# Altium schematic symbol library Connector_Audio.SchLib: 233 symbols (part 1 of 2)
Pins are listed as number, name and electrical type; pins without a type are passive.

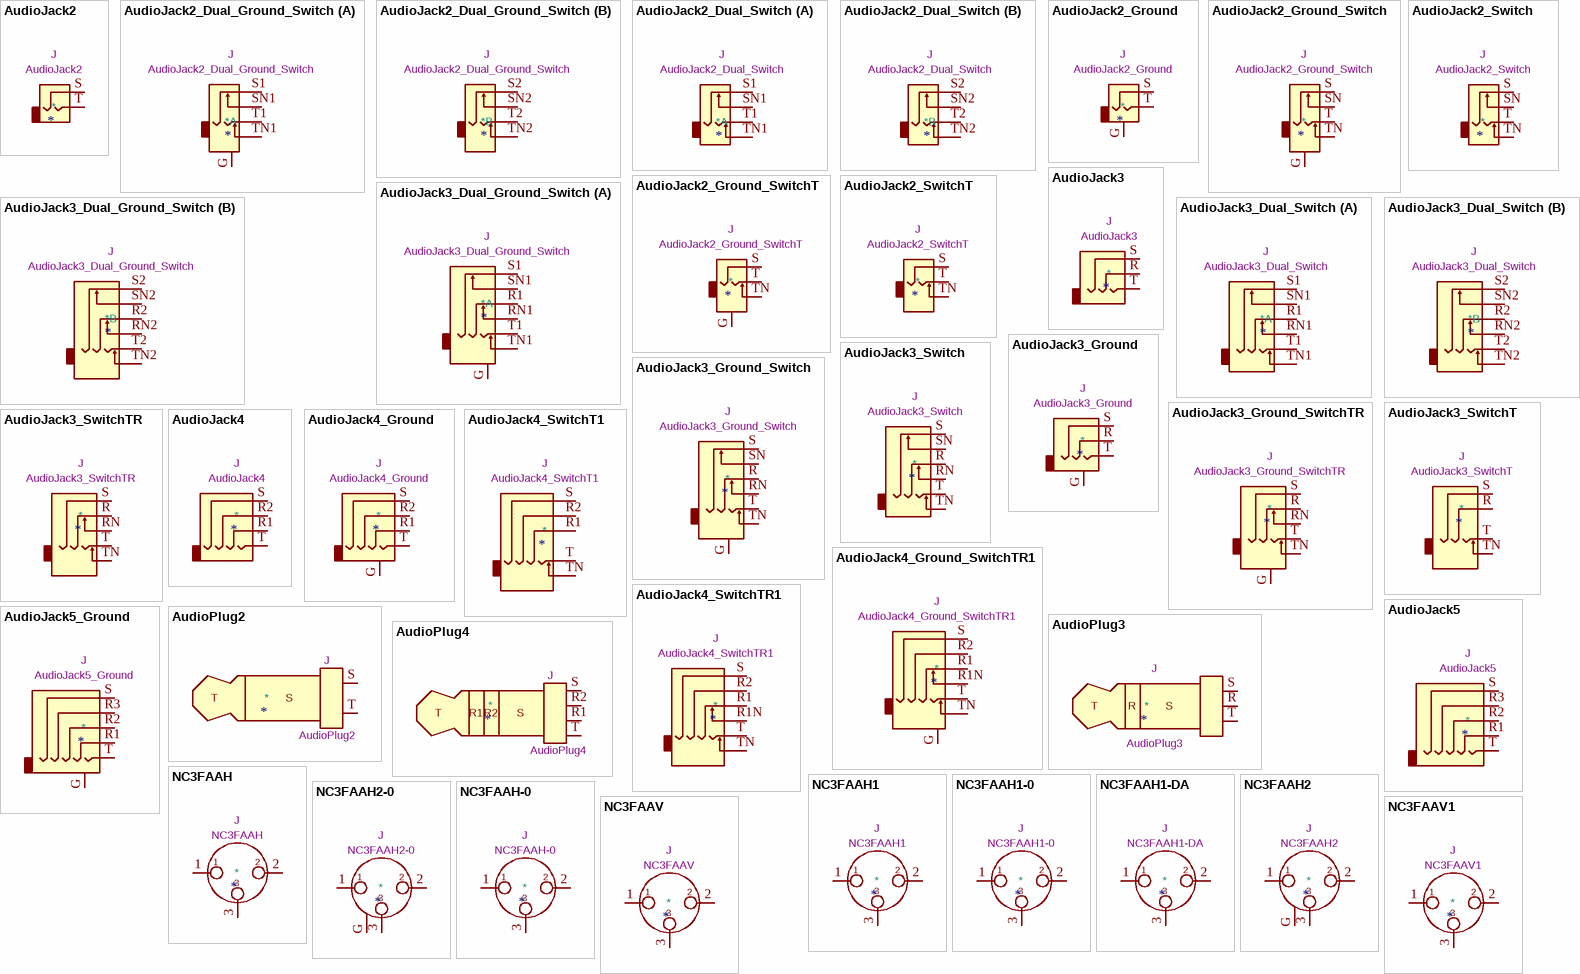
[diagram p0: symbols AudioJack2 to NC3FAAV1]

## AudioJack2
designator *  value AudioJack2  Reference: J
ki_keywords: audio jack receptacle mono phone headphone TS connector; ki_description: Audio Jack, 2 Poles (Mono / TS); ki_fp_filters: Jack*; Datasheet: ~
pins: S, T

## AudioJack2_Dual_Ground_Switch
designator *  value AudioJack2_Dual_Ground_Switch  Reference: J
ki_keywords: audio jack dual receptacle mono headphones phone TS connector; ki_description: Audio Jack, Dual, 2 Poles (Mono / TS), Grounded Sleeve, Switched Pole (Normalling); ki_fp_filters: Jack*; Datasheet: ~
part A pins: G, S1, SN1, T1, TN1
part B pins: S2, SN2, T2, TN2

## AudioJack2_Dual_Switch
designator *  value AudioJack2_Dual_Switch  Reference: J
ki_keywords: audio jack dual receptacle mono headphones phone TS connector; ki_description: Audio Jack, Dual, 2 Poles (Mono / TS), Switched Pole (Normalling); ki_fp_filters: Jack*; Datasheet: ~
part A pins: S1, SN1, T1, TN1
part B pins: S2, SN2, T2, TN2

## AudioJack2_Ground
designator *  value AudioJack2_Ground  Reference: J
ki_keywords: audio jack receptacle mono phone headphone TS connector; ki_description: Audio Jack, 2 Poles (Mono / TS), Grounded Sleeve; ki_fp_filters: Jack*; Datasheet: ~
pins: G, S, T

## AudioJack2_Ground_Switch
designator *  value AudioJack2_Ground_Switch  Reference: J
ki_keywords: audio jack receptacle mono headphones phone TS connector; ki_description: Audio Jack, 2 Poles (Mono / TS), Grounded Sleeve, Switched Pole (Normalling); ki_fp_filters: Jack*; Datasheet: ~
pins: G, S, SN, T, TN

## AudioJack2_Ground_SwitchT
designator *  value AudioJack2_Ground_SwitchT  Reference: J
ki_keywords: audio jack receptacle mono headphones phone TS connector; ki_description: Audio Jack, 2 Poles (Mono / TS), Grounded Sleeve, Switched T Pole (Normalling); ki_fp_filters: Jack*; Datasheet: ~
pins: G, S, T, TN

## AudioJack2_Switch
designator *  value AudioJack2_Switch  Reference: J
ki_keywords: audio jack receptacle mono headphones phone TS connector; ki_description: Audio Jack, 2 Poles (Mono / TS), Switched Pole (Normalling); ki_fp_filters: Jack*; Datasheet: ~
pins: S, SN, T, TN

## AudioJack2_SwitchT
designator *  value AudioJack2_SwitchT  Reference: J
ki_keywords: audio jack receptacle mono headphones phone TS connector; ki_description: Audio Jack, 2 Poles (Mono / TS), Switched T Pole (Normalling); ki_fp_filters: Jack*; Datasheet: ~
pins: S, T, TN

## AudioJack3
designator *  value AudioJack3  Reference: J
ki_keywords: audio jack receptacle stereo headphones phones TRS connector; ki_description: Audio Jack, 3 Poles (Stereo / TRS); ki_fp_filters: Jack*; Datasheet: ~
pins: R, S, T

## AudioJack3_Dual_Ground_Switch
designator *  value AudioJack3_Dual_Ground_Switch  Reference: J
ki_keywords: audio jack dual receptacle stereo headphones phones TRS connector; ki_description: Audio Jack, Dual, 3 Poles (Stereo / TRS), Grounded Sleeve, Switched Poles (Normalling); ki_fp_filters: Jack*; Datasheet: ~
part A pins: G, R1, RN1, S1, SN1, T1, TN1
part B pins: R2, RN2, S2, SN2, T2, TN2

## AudioJack3_Dual_Switch
designator *  value AudioJack3_Dual_Switch  Reference: J
ki_keywords: audio jack dual receptacle stereo headphones phones TRS connector; ki_description: Audio Jack, Dual, 3 Poles (Stereo / TRS), Switched Poles (Normalling); ki_fp_filters: Jack*; Datasheet: ~
part A pins: R1, RN1, S1, SN1, T1, TN1
part B pins: R2, RN2, S2, SN2, T2, TN2

## AudioJack3_Ground
designator *  value AudioJack3_Ground  Reference: J
ki_keywords: audio jack receptacle stereo headphones phones TRS connector; ki_description: Audio Jack, 3 Poles (Stereo / TRS), Grounded Sleeve; ki_fp_filters: Jack*; Datasheet: ~
pins: G, R, S, T

## AudioJack3_Ground_Switch
designator *  value AudioJack3_Ground_Switch  Reference: J
ki_keywords: audio jack receptacle stereo headphones phones TRS connector; ki_description: Audio Jack, 3 Poles (Stereo / TRS), Grounded Sleeve, Switched Poles (Normalling); ki_fp_filters: Jack*; Datasheet: ~
pins: G, R, RN, S, SN, T, TN

## AudioJack3_Ground_SwitchTR
designator *  value AudioJack3_Ground_SwitchTR  Reference: J
ki_keywords: audio jack receptacle stereo headphones phones TRS connector; ki_description: Audio Jack, 3 Poles (Stereo / TRS), Grounded Sleeve, Switched TR Poles (Normalling); ki_fp_filters: Jack*; Datasheet: ~
pins: G, R, RN, S, T, TN

## AudioJack3_Switch
designator *  value AudioJack3_Switch  Reference: J
ki_keywords: audio jack receptacle stereo headphones connector; ki_description: Audio Jack, 3 Poles (Stereo / TRS), Switched Poles (Normalling); ki_fp_filters: Jack*; Datasheet: ~
pins: R, RN, S, SN, T, TN

## AudioJack3_SwitchT
designator *  value AudioJack3_SwitchT  Reference: J
ki_keywords: audio jack receptacle stereo headphones phones TRS connector; ki_description: Audio Jack, 3 Poles (Stereo / TRS), Switched T Pole (Normalling); ki_fp_filters: Jack*; Datasheet: ~
pins: R, S, T, TN

## AudioJack3_SwitchTR
designator *  value AudioJack3_SwitchTR  Reference: J
ki_keywords: audio jack receptacle stereo headphones phones TRS connector; ki_description: Audio Jack, 3 Poles (Stereo / TRS), Switched TR Poles (Normalling); ki_fp_filters: Jack*; Datasheet: ~
pins: R, RN, S, T, TN

## AudioJack4
designator *  value AudioJack4  Reference: J
ki_keywords: audio jack receptacle stereo headphones TRRS connector; ki_description: Audio Jack, 4 Poles (TRRS); ki_fp_filters: Jack*; Datasheet: ~
pins: R1, R2, S, T

## AudioJack4_Ground
designator *  value AudioJack4_Ground  Reference: J
ki_keywords: audio jack receptacle stereo headphones TRRS connector; ki_description: Audio Jack, 4 Poles (TRRS), Grounded Sleeve; ki_fp_filters: Jack*; Datasheet: ~
pins: G, R1, R2, S, T

## AudioJack4_Ground_SwitchTR1
designator *  value AudioJack4_Ground_SwitchTR1  Reference: J
ki_keywords: audio jack receptacle stereo headphones phones TRS connector; ki_description: Audio Jack, 4 Poles (Stereo / TRRS), Grounded Sleeve, Switched TR1 Poles (Normalling); ki_fp_filters: Jack*; Datasheet: ~
pins: G, R1, R1N, R2, S, T, TN

## AudioJack4_SwitchT1
designator *  value AudioJack4_SwitchT1  Reference: J
ki_keywords: audio jack receptacle stereo headphones phones connector; ki_description: Audio Jack, 4 Poles (Stereo / TRRS), Switched T1 Pole (Normalling); ki_fp_filters: Jack*; Datasheet: ~
pins: R1, R2, S, T, TN

## AudioJack4_SwitchTR1
designator *  value AudioJack4_SwitchTR1  Reference: J
ki_keywords: audio jack receptacle stereo headphones phones TRS connector; ki_description: Audio Jack, 4 Poles (Stereo / TRRS), Switched TR1 Poles (Normalling); ki_fp_filters: Jack*; Datasheet: ~
pins: R1, R1N, R2, S, T, TN

## AudioJack5
designator *  value AudioJack5  Reference: J
ki_keywords: audio jack receptacle stereo headphones TRRRS connector; ki_description: Audio Jack, 5 Poles (TRRRS); ki_fp_filters: Jack*; Datasheet: ~
pins: R1, R2, R3, S, T

## AudioJack5_Ground
designator *  value AudioJack5_Ground  Reference: J
ki_keywords: audio jack receptacle stereo headphones TRRRS connector; ki_description: Audio Jack, 5 Poles (TRRRS), Grounded Sleeve; ki_fp_filters: Jack*; Datasheet: ~
pins: G, R1, R2, R3, S, T

## AudioPlug2
designator *  value AudioPlug2  Reference: J
ki_keywords: audio jack plug stereo headphones TRRS connector 2.5mm 3.5mm 6.35mm; ki_description: Audio Jack, 2 Poles (Mono / TS); ki_fp_filters: Plug*; Datasheet: ~
pins: S, T

## AudioPlug3
designator *  value AudioPlug3  Reference: J
ki_keywords: audio jack plug stereo headphones TRRS connector 2.5mm 3.5mm 6.35mm; ki_description: Audio Jack, 3 Poles (Stereo / TRS); ki_fp_filters: Plug*; Datasheet: ~
pins: R, S, T

## AudioPlug4
designator *  value AudioPlug4  Reference: J
ki_keywords: audio jack plug stereo headphones TRRS connector 2.5mm 3.5mm; ki_description: Audio Jack, 4 Poles (Stereo / TRRS); ki_fp_filters: Plug*; Datasheet: ~
pins: R1, R2, S, T

## NC3FAAH
designator *  value NC3FAAH  Reference: J
ki_keywords: xlr connector neutrik; ki_description: AA Series, 3 pole female XLR receptacle, grounding: without ground/shell contact, horizontal PCB mount; ki_fp_filters: Jack*XLR*; Footprint: Connector_Audio:Jack_XLR_Neutrik_NC3FAAH_Horizontal; Datasheet: https://www.neutrik.com/en/product/nc3faah
pins: 1, 2, 3

## NC3FAAH1
designator *  value NC3FAAH1  Reference: J
ki_keywords: xlr connector neutrik; ki_description: AA Series, 3 pole female XLR receptacle, grounding: mating connector shell to pin1 and front panel, horizontal PCB mount; ki_fp_filters: Jack*XLR*; Footprint: Connector_Audio:Jack_XLR_Neutrik_NC3FAAH1_Horizontal; Datasheet: https://www.neutrik.com/en/product/nc3faah1
pins: 1, 2, 3

## NC3FAAH1-0
designator *  value NC3FAAH1-0  Reference: J
ki_keywords: xlr connector neutrik; ki_description: AA Series, 3 pole female XLR receptacle, grounding: mating connector shell to pin1 and front panel, horizontal PCB mount, retention spring instead of latch; ki_fp_filters: Jack*XLR*; Footprint: Connector_Audio:Jack_XLR_Neutrik_NC3FAAH1-0_Horizontal; Datasheet: https://www.neutrik.com/en/product/nc3faah1-0
pins: 1, 2, 3

## NC3FAAH1-DA
designator *  value NC3FAAH1-DA  Reference: J
ki_keywords: xlr connector neutrik; ki_description: AA Series, 3 pole female XLR receptacle, grounding: mating connector shell to pin1 and front panel, horizontal PCB mount, asymmetric push; ki_fp_filters: Jack*XLR*; Footprint: Connector_Audio:Jack_XLR_Neutrik_NC3FAAH1-DA_Horizontal; Datasheet: https://www.neutrik.com/en/product/nc3faah1-da
pins: 1, 2, 3

## NC3FAAH2
designator *  value NC3FAAH2  Reference: J
ki_keywords: xlr connector neutrik; ki_description: AA Series, 3 pole female XLR receptacle, grounding: separate ground contact to mating connector shell and front panel, horizontal PCB mount; ki_fp_filters: Jack*XLR*; Footprint: Connector_Audio:Jack_XLR_Neutrik_NC3FAAH2_Horizontal; Datasheet: https://www.neutrik.com/en/product/nc3faah2
pins: 1, 2, 3, G

## NC3FAAH2-0
designator *  value NC3FAAH2-0  Reference: J
ki_keywords: xlr connector neutrik; ki_description: AA Series, 3 pole female XLR receptacle, grounding: separate ground contact to mating connector shell and front panel, horizontal PCB mount, retention spring instead of latch; ki_fp_filters: Jack*XLR*; Footprint: Connector_Audio:Jack_XLR_Neutrik_NC3FAAH2-0_Horizontal; Datasheet: https://www.neutrik.com/en/product/nc3faah2-0
pins: 1, 2, 3, G

## NC3FAAH-0
designator *  value NC3FAAH-0  Reference: J
ki_keywords: xlr connector neutrik; ki_description: AA Series, 3 pole female XLR receptacle, grounding: without ground/shell contact, horizontal PCB mount, retention spring instead of latch; ki_fp_filters: Jack*XLR*; Footprint: Connector_Audio:Jack_XLR_Neutrik_NC3FAAH-0_Horizontal; Datasheet: https://www.neutrik.com/en/product/nc3faah-0
pins: 1, 2, 3

## NC3FAAV
designator *  value NC3FAAV  Reference: J
ki_keywords: xlr connector neutrik; ki_description: AA Series, 3 pole female receptacle, grounding: without ground/shell contact, vertical PCB mount; ki_fp_filters: Jack*XLR*; Footprint: Connector_Audio:Jack_XLR_Neutrik_NC3FAAV_Vertical; Datasheet: https://www.neutrik.com/en/product/nc3faav
pins: 1, 2, 3

## NC3FAAV1
designator *  value NC3FAAV1  Reference: J
ki_keywords: xlr connector neutrik; ki_description: AA Series, 3 pole female receptacle, grounding: mating connector shell to pin1 and front panel, vertical PCB mount; ki_fp_filters: Jack*XLR*; Footprint: Connector_Audio:Jack_XLR_Neutrik_NC3FAAV1_Vertical; Datasheet: https://www.neutrik.com/en/product/nc3faav1
pins: 1, 2, 3

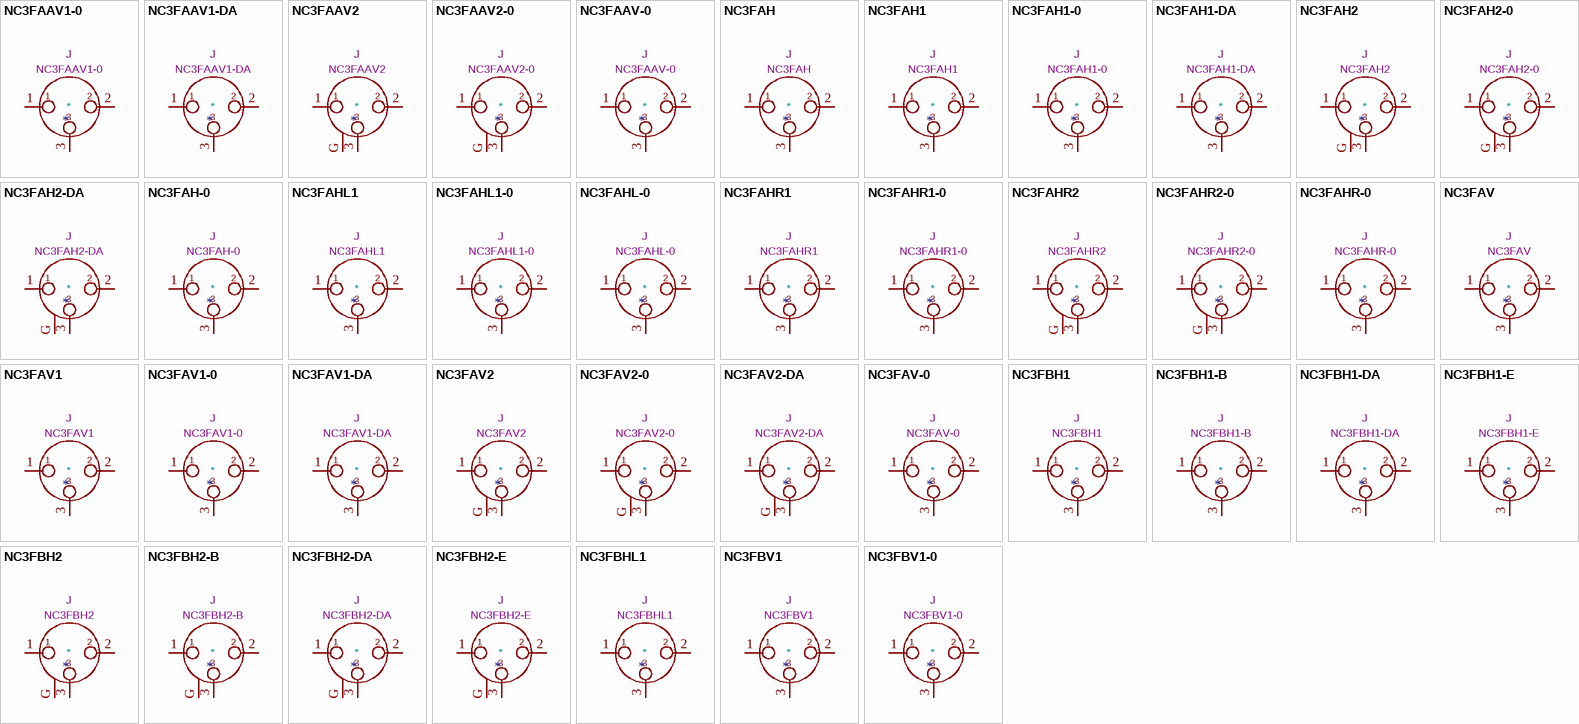
[diagram p1: symbols NC3FAAV1-0 to NC3FBV1-0]

## NC3FAAV1-0
designator *  value NC3FAAV1-0  Reference: J
ki_keywords: xlr connector neutrik; ki_description: AA Series, 3 pole female receptacle, grounding: mating connector shell to pin1 and front panel, vertical PCB mount, retention spring instead of latch; ki_fp_filters: Jack*XLR*; Footprint: Connector_Audio:Jack_XLR_Neutrik_NC3FAAV1-0_Vertical; Datasheet: https://www.neutrik.com/en/product/nc3faav1-0
pins: 1, 2, 3

## NC3FAAV1-DA
designator *  value NC3FAAV1-DA  Reference: J
ki_keywords: xlr connector neutrik; ki_description: AA Series, 3 pole female receptacle, grounding: mating connector shell to pin1 and front panel, vertical PCB mount, asymmetric push; ki_fp_filters: Jack*XLR*; Footprint: Connector_Audio:Jack_XLR_Neutrik_NC3FAAV1-DA_Vertical; Datasheet: https://www.neutrik.com/en/product/nc3faav1-da
pins: 1, 2, 3

## NC3FAAV2
designator *  value NC3FAAV2  Reference: J
ki_keywords: xlr connector neutrik; ki_description: AA Series, 3 pole female receptacle, grounding: separate ground contact to mating connector shell and front panel, vertical PCB mount; ki_fp_filters: Jack*XLR*; Footprint: Connector_Audio:Jack_XLR_Neutrik_NC3FAAV2_Vertical; Datasheet: https://www.neutrik.com/en/product/nc3faav2
pins: 1, 2, 3, G

## NC3FAAV2-0
designator *  value NC3FAAV2-0  Reference: J
ki_keywords: xlr connector neutrik; ki_description: AA Series, 3 pole female receptacle, grounding: separate ground contact to mating connector shell and front panel, vertical PCB mount, retention spring instead of latch; ki_fp_filters: Jack*XLR*; Footprint: Connector_Audio:Jack_XLR_Neutrik_NC3FAAV2-0_Vertical; Datasheet: https://www.neutrik.com/en/product/nc3faav2-0
pins: 1, 2, 3, G

## NC3FAAV-0
designator *  value NC3FAAV-0  Reference: J
ki_keywords: xlr connector neutrik; ki_description: AA Series, 3 pole female receptacle, grounding: without ground/shell contact, vertical PCB mount, retention spring instead of latch; ki_fp_filters: Jack*XLR*; Footprint: Connector_Audio:Jack_XLR_Neutrik_NC3FAAV-0_Vertical; Datasheet: https://www.neutrik.com/en/product/nc3faav-0
pins: 1, 2, 3

## NC3FAH
designator *  value NC3FAH  Reference: J
ki_keywords: xlr connector neutrik; ki_description: A Series, 3 pole female XLR receptacle, grounding: without ground/shell contact, horizontal PCB mount; ki_fp_filters: Jack*XLR*; Footprint: Connector_Audio:Jack_XLR_Neutrik_NC3FAH_Horizontal; Datasheet: https://www.neutrik.com/en/product/nc3fah
pins: 1, 2, 3

## NC3FAH1
designator *  value NC3FAH1  Reference: J
ki_keywords: xlr connector neutrik; ki_description: A Series, 3 pole female XLR receptacle, grounding: mating connector shell to pin1 and front panel, horizontal PCB mount; ki_fp_filters: Jack*XLR*; Footprint: Connector_Audio:Jack_XLR_Neutrik_NC3FAH1_Horizontal; Datasheet: https://www.neutrik.com/en/product/nc3fah1
pins: 1, 2, 3

## NC3FAH1-0
designator *  value NC3FAH1-0  Reference: J
ki_keywords: xlr connector neutrik; ki_description: A Series, 3 pole female XLR receptacle, grounding: mating connector shell to pin1 and front panel, horizontal PCB mount, retention spring instead of latch; ki_fp_filters: Jack*XLR*; Footprint: Connector_Audio:Jack_XLR_Neutrik_NC3FAH1-0_Horizontal; Datasheet: https://www.neutrik.com/en/product/nc3fah1-0
pins: 1, 2, 3

## NC3FAH1-DA
designator *  value NC3FAH1-DA  Reference: J
ki_keywords: xlr connector neutrik; ki_description: A Series, 3 pole female XLR receptacle, grounding: mating connector shell to pin1 and front panel, horizontal PCB mount, asymmetric push; ki_fp_filters: Jack*XLR*; Footprint: Connector_Audio:Jack_XLR_Neutrik_NC3FAH1-DA_Horizontal; Datasheet: https://www.neutrik.com/en/product/nc3fah1-da
pins: 1, 2, 3

## NC3FAH2
designator *  value NC3FAH2  Reference: J
ki_keywords: xlr connector neutrik; ki_description: A Series, 3 pole female XLR receptacle, grounding: separate ground contact to mating connector shell and front panel, horizontal PCB mount; ki_fp_filters: Jack*XLR*; Footprint: Connector_Audio:Jack_XLR_Neutrik_NC3FAH2_Horizontal; Datasheet: https://www.neutrik.com/en/product/nc3fah2
pins: 1, 2, 3, G

## NC3FAH2-0
designator *  value NC3FAH2-0  Reference: J
ki_keywords: xlr connector neutrik; ki_description: A Series, 3 pole female XLR receptacle, grounding: separate ground contact to mating connector shell and front panel, horizontal PCB mount, retention spring instead of latch; ki_fp_filters: Jack*XLR*; Footprint: Connector_Audio:Jack_XLR_Neutrik_NC3FAH2-0_Horizontal; Datasheet: https://www.neutrik.com/en/product/nc3fah2-0
pins: 1, 2, 3, G

## NC3FAH2-DA
designator *  value NC3FAH2-DA  Reference: J
ki_keywords: xlr connector neutrik; ki_description: A Series, 3 pole female XLR receptacle, grounding: separate ground contact to mating connector shell and front panel, horizontal PCB mount, asymmetric push; ki_fp_filters: Jack*XLR*; Footprint: Connector_Audio:Jack_XLR_Neutrik_NC3FAH2-DA_Horizontal; Datasheet: https://www.neutrik.com/en/product/nc3fah2-da
pins: 1, 2, 3, G

## NC3FAH-0
designator *  value NC3FAH-0  Reference: J
ki_keywords: xlr connector neutrik; ki_description: A Series, 3 pole female XLR receptacle, grounding: without ground/shell contact, horizontal PCB mount, retention spring instead of latch; ki_fp_filters: Jack*XLR*; Footprint: Connector_Audio:Jack_XLR_Neutrik_NC3FAH-0_Horizontal; Datasheet: https://www.neutrik.com/en/product/nc3fah-0
pins: 1, 2, 3

## NC3FAHL1
designator *  value NC3FAHL1  Reference: J
ki_keywords: xlr connector neutrik; ki_description: A Series, 3 pole female XLR receptacle, grounding: mating connector shell to pin1 and front panel, lateral left PCB mount; ki_fp_filters: Jack*XLR*; Footprint: Connector_Audio:Jack_XLR_Neutrik_NC3FAHL1_Horizontal; Datasheet: https://www.neutrik.com/en/product/nc3fahl1
pins: 1, 2, 3

## NC3FAHL1-0
designator *  value NC3FAHL1-0  Reference: J
ki_keywords: xlr connector neutrik; ki_description: A Series, 3 pole female XLR receptacle, grounding: mating connector shell to pin1 and front panel, lateral left PCB mount, retention spring instead of latch; ki_fp_filters: Jack*XLR*; Footprint: Connector_Audio:Jack_XLR_Neutrik_NC3FAHL1-0_Horizontal; Datasheet: https://www.neutrik.com/en/product/nc3fahl1-0
pins: 1, 2, 3

## NC3FAHL-0
designator *  value NC3FAHL-0  Reference: J
ki_keywords: xlr connector neutrik; ki_description: A Series, 3 pole female XLR receptacle, grounding: without ground/shell contact, lateral left PCB mount, retention spring instead of latch; ki_fp_filters: Jack*XLR*; Footprint: Connector_Audio:Jack_XLR_Neutrik_NC3FAHL-0_Horizontal; Datasheet: https://www.neutrik.com/en/product/nc3fahl-0
pins: 1, 2, 3

## NC3FAHR1
designator *  value NC3FAHR1  Reference: J
ki_keywords: xlr connector neutrik; ki_description: A Series, 3 pole female XLR receptacle, grounding: mating connector shell to pin1 and front panel, lateral right PCB mount; ki_fp_filters: Jack*XLR*; Footprint: Connector_Audio:Jack_XLR_Neutrik_NC3FAHR1_Horizontal; Datasheet: https://www.neutrik.com/en/product/nc3fahr1
pins: 1, 2, 3

## NC3FAHR1-0
designator *  value NC3FAHR1-0  Reference: J
ki_keywords: xlr connector neutrik; ki_description: A Series, 3 pole female XLR receptacle, grounding: mating connector shell to pin1 and front panel, lateral right PCB mount, retention spring instead of latch; ki_fp_filters: Jack*XLR*; Footprint: Connector_Audio:Jack_XLR_Neutrik_NC3FAHR1-0_Horizontal; Datasheet: https://www.neutrik.com/en/product/nc3fahr1-0
pins: 1, 2, 3

## NC3FAHR2
designator *  value NC3FAHR2  Reference: J
ki_keywords: xlr connector neutrik; ki_description: A Series, 3 pole female XLR receptacle, grounding: separate ground contact to mating connector shell and front panel, lateral right PCB mount; ki_fp_filters: Jack*XLR*; Footprint: Connector_Audio:Jack_XLR_Neutrik_NC3FAHR2_Horizontal; Datasheet: https://www.neutrik.com/en/product/nc3fahr2
pins: 1, 2, 3, G

## NC3FAHR2-0
designator *  value NC3FAHR2-0  Reference: J
ki_keywords: xlr connector neutrik; ki_description: A Series, 3 pole female XLR receptacle, grounding: separate ground contact to mating connector shell and front panel, lateral right PCB mount, retention spring instead of latch; ki_fp_filters: Jack*XLR*; Footprint: Connector_Audio:Jack_XLR_Neutrik_NC3FAHR2-0_Horizontal; Datasheet: https://www.neutrik.com/en/product/nc3fahr2-0
pins: 1, 2, 3, G

## NC3FAHR-0
designator *  value NC3FAHR-0  Reference: J
ki_keywords: xlr connector neutrik; ki_description: A Series, 3 pole female XLR receptacle, grounding: without ground / shell contact, lateral right PCB mount, retention spring instead of latch; ki_fp_filters: Jack*XLR*; Footprint: Connector_Audio:Jack_XLR_Neutrik_NC3FAHR-0_Horizontal; Datasheet: https://www.neutrik.com/en/product/nc3fahr-0
pins: 1, 2, 3

## NC3FAV
designator *  value NC3FAV  Reference: J
ki_keywords: xlr connector neutrik; ki_description: A Series, 3 pole female XLR receptacle, grounding: without ground / shell contact, vertical PCB mount; ki_fp_filters: Jack*XLR*; Footprint: Connector_Audio:Jack_XLR_Neutrik_NC3FAV_Vertical; Datasheet: https://www.neutrik.com/en/product/nc3fav
pins: 1, 2, 3

## NC3FAV1
designator *  value NC3FAV1  Reference: J
ki_keywords: xlr connector neutrik; ki_description: A Series, 3 pole female XLR receptacle, grounding: mating connector shell to pin1 and front panel, vertical PCB mount; ki_fp_filters: Jack*XLR*; Footprint: Connector_Audio:Jack_XLR_Neutrik_NC3FAV1_Vertical; Datasheet: https://www.neutrik.com/en/product/nc3fav1
pins: 1, 2, 3

## NC3FAV1-0
designator *  value NC3FAV1-0  Reference: J
ki_keywords: xlr connector neutrik; ki_description: A Series, 3 pole female XLR receptacle, grounding: mating connector shell to pin1 and front panel, vertical PCB mount, retention spring instead of latch; ki_fp_filters: Jack*XLR*; Footprint: Connector_Audio:Jack_XLR_Neutrik_NC3FAV1-0_Vertical; Datasheet: https://www.neutrik.com/en/product/nc3fav1-0
pins: 1, 2, 3

## NC3FAV1-DA
designator *  value NC3FAV1-DA  Reference: J
ki_keywords: xlr connector neutrik; ki_description: A Series, 3 pole female XLR receptacle, grounding: mating connector shell to pin1 and front panel, vertical PCB mount, asymmetric push; ki_fp_filters: Jack*XLR*; Footprint: Connector_Audio:Jack_XLR_Neutrik_NC3FAV1-DA_Vertical; Datasheet: https://www.neutrik.com/en/product/nc3fav1-da
pins: 1, 2, 3

## NC3FAV2
designator *  value NC3FAV2  Reference: J
ki_keywords: xlr connector neutrik; ki_description: A Series, 3 pole female XLR receptacle, grounding: separate ground contact to mating connector shell and front panel, vertical PCB mount; ki_fp_filters: Jack*XLR*; Footprint: Connector_Audio:Jack_XLR_Neutrik_NC3FAV2_Vertical; Datasheet: https://www.neutrik.com/en/product/nc3fav2
pins: 1, 2, 3, G

## NC3FAV2-0
designator *  value NC3FAV2-0  Reference: J
ki_keywords: xlr connector neutrik; ki_description: A Series, 3 pole female XLR receptacle, grounding: separate ground contact to mating connector shell and front panel, vertical PCB mount, retention spring instead of latch; ki_fp_filters: Jack*XLR*; Footprint: Connector_Audio:Jack_XLR_Neutrik_NC3FAV2-0_Vertical; Datasheet: https://www.neutrik.com/en/product/nc3fav2-0
pins: 1, 2, 3, G

## NC3FAV2-DA
designator *  value NC3FAV2-DA  Reference: J
ki_keywords: xlr connector neutrik; ki_description: A Series, 3 pole female XLR receptacle, grounding: separate ground contact to mating connector shell and front panel, vertical PCB mount, asymmetric push; ki_fp_filters: Jack*XLR*; Footprint: Connector_Audio:Jack_XLR_Neutrik_NC3FAV2-DA_Vertical; Datasheet: https://www.neutrik.com/en/product/nc3fav2-da
pins: 1, 2, 3, G

## NC3FAV-0
designator *  value NC3FAV-0  Reference: J
ki_keywords: xlr connector neutrik; ki_description: A Series, 3 pole female XLR receptacle, grounding: without ground / shell contact, vertical PCB mount, retention spring instead of latch; ki_fp_filters: Jack*XLR*; Footprint: Connector_Audio:Jack_XLR_Neutrik_NC3FAV-0_Vertical; Datasheet: https://www.neutrik.com/en/product/nc3fav-0
pins: 1, 2, 3

## NC3FBH1
designator *  value NC3FBH1  Reference: J
ki_keywords: xlr connector neutrik; ki_description: B Series, 3 pole female XLR receptacle, grounding: mating connector shell to pin1 and front panel, horizontal PCB mount; ki_fp_filters: Jack*XLR*; Footprint: Connector_Audio:Jack_XLR_Neutrik_NC3FBH1_Horizontal; Datasheet: https://www.neutrik.com/en/product/nc3fbh1
pins: 1, 2, 3

## NC3FBH1-B
designator *  value NC3FBH1-B  Reference: J
ki_keywords: xlr connector neutrik; ki_description: B Series, 3 pole female XLR receptacle, grounding: mating connector shell to pin1 and front panel, horizontal PCB mount, black chrome shell; ki_fp_filters: Jack*XLR*; Footprint: Connector_Audio:Jack_XLR_Neutrik_NC3FBH1-B_Horizontal; Datasheet: https://www.neutrik.com/en/product/nc3fbh1-b
pins: 1, 2, 3

## NC3FBH1-DA
designator *  value NC3FBH1-DA  Reference: J
ki_keywords: xlr connector neutrik; ki_description: B Series, 3 pole female XLR receptacle, grounding: mating connector shell to pin1 and front panel, horizontal PCB mount, asymmetric push; ki_fp_filters: Jack*XLR*; Footprint: Connector_Audio:Jack_XLR_Neutrik_NC3FBH1-DA_Horizontal; Datasheet: https://www.neutrik.com/en/product/nc3fbh1-da
pins: 1, 2, 3

## NC3FBH1-E
designator *  value NC3FBH1-E  Reference: J
ki_keywords: xlr connector neutrik; ki_description: B Series, 3 pole female XLR receptacle, grounding: mating connector shell to pin1 and front panel, horizontal PCB mount, additional ground contacts; ki_fp_filters: Jack*XLR*; Footprint: Connector_Audio:Jack_XLR_Neutrik_NC3FBH1-E_Horizontal; Datasheet: https://www.neutrik.com/en/product/nc3fbh1-e
pins: 1, 2, 3

## NC3FBH2
designator *  value NC3FBH2  Reference: J
ki_keywords: xlr connector neutrik; ki_description: B Series, 3 pole female XLR receptacle, grounding: separate ground contact to mating connector shell and front panel, horizontal PCB mount; ki_fp_filters: Jack*XLR*; Footprint: Connector_Audio:Jack_XLR_Neutrik_NC3FBH2_Horizontal; Datasheet: https://www.neutrik.com/en/product/nc3fbh2
pins: 1, 2, 3, G

## NC3FBH2-B
designator *  value NC3FBH2-B  Reference: J
ki_keywords: xlr connector neutrik; ki_description: B Series, 3 pole female XLR receptacle, grounding: separate ground contact to mating connector shell and front panel, horizontal PCB mount, black chrome shell; ki_fp_filters: Jack*XLR*; Footprint: Connector_Audio:Jack_XLR_Neutrik_NC3FBH2-B_Horizontal; Datasheet: https://www.neutrik.com/en/product/nc3fbh2-b
pins: 1, 2, 3, G

## NC3FBH2-DA
designator *  value NC3FBH2-DA  Reference: J
ki_keywords: xlr connector neutrik; ki_description: B Series, 3 pole female XLR receptacle, grounding: separate ground contact to mating connector shell and front panel, horizontal PCB mount, asymmetric push; ki_fp_filters: Jack*XLR*; Footprint: Connector_Audio:Jack_XLR_Neutrik_NC3FBH2-DA_Horizontal; Datasheet: https://www.neutrik.com/en/product/nc3fbh2-da
pins: 1, 2, 3, G

## NC3FBH2-E
designator *  value NC3FBH2-E  Reference: J
ki_keywords: xlr connector neutrik; ki_description: B Series, 3 pole female XLR receptacle, grounding: separate ground contact to mating connector shell and front panel, horizontal PCB mount, additional ground contacts; ki_fp_filters: Jack*XLR*; Footprint: Connector_Audio:Jack_XLR_Neutrik_NC3FBH2-E_Horizontal; Datasheet: https://www.neutrik.com/en/product/nc3fbh2-e
pins: 1, 2, 3, G

## NC3FBHL1
designator *  value NC3FBHL1  Reference: J
ki_keywords: xlr connector neutrik; ki_description: B Series, 3 pole female XLR receptacle, grounding: mating connector shell to pin1 and front panel, lateral left PCB mount; ki_fp_filters: Jack*XLR*; Footprint: Connector_Audio:Jack_XLR_Neutrik_NC3FBHL1_Horizontal; Datasheet: https://www.neutrik.com/en/product/nc3fbhl1
pins: 1, 2, 3

## NC3FBV1
designator *  value NC3FBV1  Reference: J
ki_keywords: xlr connector neutrik; ki_description: B Series, 3 pole female XLR receptacle, grounding: mating connector shell to pin1 and front panel, vertical PCB mount; ki_fp_filters: Jack*XLR*; Footprint: Connector_Audio:Jack_XLR_Neutrik_NC3FBV1_Vertical; Datasheet: https://www.neutrik.com/en/product/nc3fbv1
pins: 1, 2, 3

## NC3FBV1-0
designator *  value NC3FBV1-0  Reference: J
ki_keywords: xlr connector neutrik; ki_description: B Series, 3 pole female XLR receptacle, grounding: mating connector shell to pin1 and front panel, vertical PCB mount, retention spring, no latch; ki_fp_filters: Jack*XLR*; Footprint: Connector_Audio:Jack_XLR_Neutrik_NC3FBV1-0_Vertical; Datasheet: https://www.neutrik.com/en/product/nc3fbv1-0
pins: 1, 2, 3

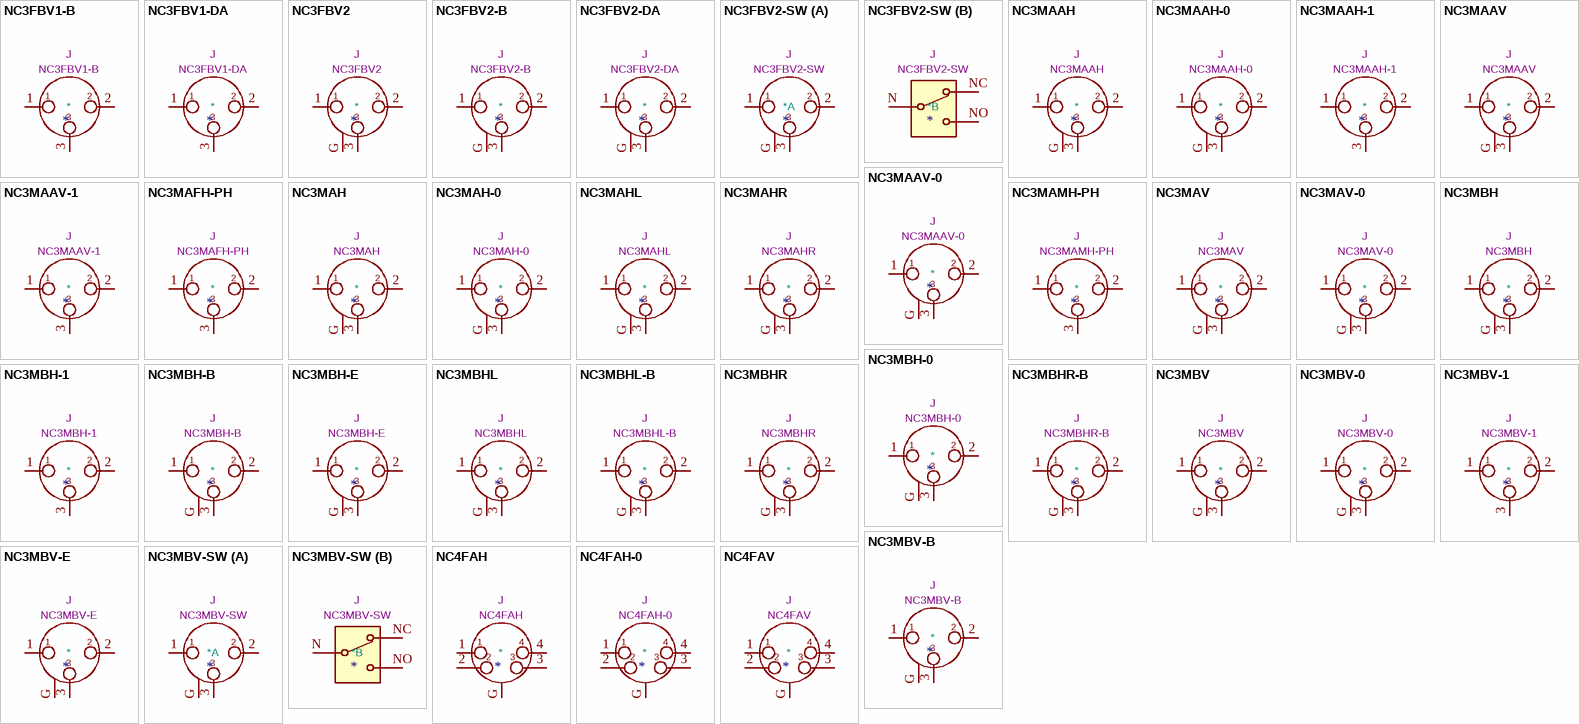
[diagram p2: symbols NC3FBV1-B to NC4FAV]

## NC3FBV1-B
designator *  value NC3FBV1-B  Reference: J
ki_keywords: xlr connector neutrik; ki_description: B Series, 3 pole female XLR receptacle, grounding: mating connector shell to pin1 and front panel, vertical PCB mount, black chrome shell; ki_fp_filters: Jack*XLR*; Footprint: Connector_Audio:Jack_XLR_Neutrik_NC3FBV1-B_Vertical; Datasheet: https://www.neutrik.com/en/product/nc3fbv1-b
pins: 1, 2, 3

## NC3FBV1-DA
designator *  value NC3FBV1-DA  Reference: J
ki_keywords: xlr connector neutrik; ki_description: B Series, 3 pole female XLR receptacle, grounding: mating connector shell to pin1 and front panel, vertical PCB mount, asymmetric push; ki_fp_filters: Jack*XLR*; Footprint: Connector_Audio:Jack_XLR_Neutrik_NC3FBV1-DA_Vertical; Datasheet: https://www.neutrik.com/en/product/nc3fbv1-da
pins: 1, 2, 3

## NC3FBV2
designator *  value NC3FBV2  Reference: J
ki_keywords: xlr connector neutrik; ki_description: B Series, 3 pole female XLR receptacle, grounding: separate ground contact to mating connector shell and front panel, vertical PCB mount; ki_fp_filters: Jack*XLR*; Footprint: Connector_Audio:Jack_XLR_Neutrik_NC3FBV2_Vertical; Datasheet: https://www.neutrik.com/en/product/nc3fbv2
pins: 1, 2, 3, G

## NC3FBV2-B
designator *  value NC3FBV2-B  Reference: J
ki_keywords: xlr connector neutrik; ki_description: B Series, 3 pole female XLR receptacle, grounding: separate ground contact to mating connector shell and front panel, vertical PCB mount, black chrome shell; ki_fp_filters: Jack*XLR*; Footprint: Connector_Audio:Jack_XLR_Neutrik_NC3FBV2-B_Vertical; Datasheet: https://www.neutrik.com/en/product/nc3fbv2-b
pins: 1, 2, 3, G

## NC3FBV2-DA
designator *  value NC3FBV2-DA  Reference: J
ki_keywords: xlr connector neutrik; ki_description: B Series, 3 pole female XLR receptacle, grounding: separate ground contact to mating connector shell and front panel, vertical PCB mount, asymmetric push; ki_fp_filters: Jack*XLR*; Footprint: Connector_Audio:Jack_XLR_Neutrik_NC3FBV2-DA_Vertical; Datasheet: https://www.neutrik.com/en/product/nc3fbv2-da
pins: 1, 2, 3, G

## NC3FBV2-SW
designator *  value NC3FBV2-SW  Reference: J
ki_keywords: xlr connector spdt switch neutrik; ki_description: B Series, 3 pole female XLR receptacle, switching contacts, grounding: separate ground contact to mating connector shell and front panel, vertical PCB mount; ki_fp_filters: Jack*XLR*; Footprint: Connector_Audio:Jack_XLR_Neutrik_NC3FBV2-SW_Vertical; Datasheet: https://www.neutrik.com/en/product/nc3fbv2-sw
part A pins: 1, 2, 3, G
part B pins: N, NC, NO

## NC3MAAH
designator *  value NC3MAAH  Reference: J
ki_keywords: xlr connector neutrik; ki_description: AA Series, 3 pole male XLR receptacle, grounding: separate ground contact to mating connector shell and front panel, horizontal PCB mount; ki_fp_filters: Jack*XLR*; Footprint: Connector_Audio:Jack_XLR_Neutrik_NC3MAAH_Horizontal; Datasheet: https://www.neutrik.com/en/product/nc3maah
pins: 1, 2, 3, G

## NC3MAAH-0
designator *  value NC3MAAH-0  Reference: J
ki_keywords: xlr connector neutrik; ki_description: AA Series, 3 pole male XLR receptacle, grounding: ground contact connected to shell ground, but not to front panel and Pin 1, horizontal PCB mount; ki_fp_filters: Jack*XLR*; Footprint: Connector_Audio:Jack_XLR_Neutrik_NC3MAAH-0_Horizontal; Datasheet: https://www.neutrik.com/en/product/nc3maah-0
pins: 1, 2, 3, G

## NC3MAAH-1
designator *  value NC3MAAH-1  Reference: J
ki_keywords: xlr connector neutrik; ki_description: AA Series, 3 pole male XLR receptacle, grounding: mating connector shell to pin1 and front panel, horizontal PCB mount; ki_fp_filters: Jack*XLR*; Footprint: Connector_Audio:Jack_XLR_Neutrik_NC3MAAH-1_Horizontal; Datasheet: https://www.neutrik.com/en/product/nc3maah-1
pins: 1, 2, 3

## NC3MAAV
designator *  value NC3MAAV  Reference: J
ki_keywords: xlr connector neutrik; ki_description: AA Series, 3 pole male XLR receptacle, grounding: separate ground contact to mating connector shell and front panel, vertical PCB mount; ki_fp_filters: Jack*XLR*; Footprint: Connector_Audio:Jack_XLR_Neutrik_NC3MAAV_Vertical; Datasheet: https://www.neutrik.com/en/product/nc3maav
pins: 1, 2, 3, G

## NC3MAAV-0
designator *  value NC3MAAV-0  Reference: J
ki_keywords: xlr connector neutrik; ki_description: AA Series, 3 pole male XLR receptacle, grounding: ground contact connected to shell ground, but not to front panel and Pin 1, vertical PCB mount; ki_fp_filters: Jack*XLR*; Footprint: Connector_Audio:Jack_XLR_Neutrik_NC3MAAV-0_Vertical; Datasheet: https://www.neutrik.com/en/product/nc3maav-0
pins: 1, 2, 3, G

## NC3MAAV-1
designator *  value NC3MAAV-1  Reference: J
ki_keywords: xlr connector neutrik; ki_description: AA Series, 3 pole male XLR receptacle, grounding: mating connector shell to pin1 and front panel, vertical PCB mount; ki_fp_filters: Jack*XLR*; Footprint: Connector_Audio:Jack_XLR_Neutrik_NC3MAAV-1_Vertical; Datasheet: https://www.neutrik.com/en/product/nc3maav-1
pins: 1, 2, 3

## NC3MAFH-PH
designator *  value NC3MAFH-PH  Reference: J
ki_keywords: xlr connector neutrik; ki_description: A Series, Chassis connector H female (A series layout), mates with Phoenix MSTB2,5/3-ST, horizontal PCB mount; ki_fp_filters: Jack*XLR*; Footprint: Connector_Audio:Jack_XLR_Neutrik_NC3MAFH-PH_Horizontal; Datasheet: https://www.neutrik.com/en/product/nc3mafh-ph
pins: 1, 2, 3

## NC3MAH
designator *  value NC3MAH  Reference: J
ki_keywords: xlr connector neutrik; ki_description: A Series, 3 pole male XLR receptacle, grounding: separate ground contact to mating connector shell and front panel, horizontal PCB mount; ki_fp_filters: Jack*XLR*; Footprint: Connector_Audio:Jack_XLR_Neutrik_NC3MAH_Horizontal; Datasheet: https://www.neutrik.com/en/product/nc3mah
pins: 1, 2, 3, G

## NC3MAH-0
designator *  value NC3MAH-0  Reference: J
ki_keywords: xlr connector neutrik; ki_description: A Series, 3 pole male XLR receptacle, grounding: ground contact connected to shell ground, but not to front panel and Pin 1, horizontal PCB mount; ki_fp_filters: Jack*XLR*; Footprint: Connector_Audio:Jack_XLR_Neutrik_NC3MAH-0_Horizontal; Datasheet: https://www.neutrik.com/en/product/nc3mah-0
pins: 1, 2, 3, G

## NC3MAHL
designator *  value NC3MAHL  Reference: J
ki_keywords: xlr connector neutrik; ki_description: A Series, 3 pole male XLR receptacle, grounding: separate ground contact to mating connector shell and front panel, lateral left PCB mount; ki_fp_filters: Jack*XLR*; Footprint: Connector_Audio:Jack_XLR_Neutrik_NC3MAHL_Horizontal; Datasheet: https://www.neutrik.com/en/product/nc3mahl
pins: 1, 2, 3, G

## NC3MAHR
designator *  value NC3MAHR  Reference: J
ki_keywords: xlr connector neutrik; ki_description: A Series, 3 pole male XLR receptacle, grounding: separate ground contact to mating connector shell and front panel, lateral right PCB mount; ki_fp_filters: Jack*XLR*; Footprint: Connector_Audio:Jack_XLR_Neutrik_NC3MAHR_Horizontal; Datasheet: https://www.neutrik.com/en/product/nc3mahr
pins: 1, 2, 3, G

## NC3MAMH-PH
designator *  value NC3MAMH-PH  Reference: J
ki_keywords: xlr connector neutrik; ki_description: A Series, Chassis connector Phoenix H male (A series layout), mates with Phoenix MSTB 2,5/3-ST, horizontal PCB mount; ki_fp_filters: Jack*XLR*; Footprint: Connector_Audio:Jack_XLR_Neutrik_NC3MAMH-PH_Horizontal; Datasheet: https://www.neutrik.com/en/product/nc3mamh-ph
pins: 1, 2, 3

## NC3MAV
designator *  value NC3MAV  Reference: J
ki_keywords: xlr connector neutrik; ki_description: A Series, 3 pole male XLR receptacle, grounding: separate ground contact to mating connector shell and front panel, vertical PCB mount; ki_fp_filters: Jack*XLR*; Footprint: Connector_Audio:Jack_XLR_Neutrik_NC3MAV_Vertical; Datasheet: https://www.neutrik.com/en/product/nc3mav
pins: 1, 2, 3, G

## NC3MAV-0
designator *  value NC3MAV-0  Reference: J
ki_keywords: xlr connector neutrik; ki_description: A Series, 3 pole male XLR receptacle, grounding: ground contact connected to shell ground, but not to front panel and Pin 1, vertical PCB mount; ki_fp_filters: Jack*XLR*; Footprint: Connector_Audio:Jack_XLR_Neutrik_NC3MAV-0_Vertical; Datasheet: https://www.neutrik.com/en/product/nc3mav-0
pins: 1, 2, 3, G

## NC3MBH
designator *  value NC3MBH  Reference: J
ki_keywords: xlr connector neutrik; ki_description: B Series, 3 pole male XLR receptacle, grounding: separate ground contact to mating connector shell and front panel, steel retention lug, horizontal PCB mount; ki_fp_filters: Jack*XLR*; Footprint: Connector_Audio:Jack_XLR_Neutrik_NC3MBH_Horizontal; Datasheet: https://www.neutrik.com/en/product/nc3mbh
pins: 1, 2, 3, G

## NC3MBH-0
designator *  value NC3MBH-0  Reference: J
ki_keywords: xlr connector neutrik; ki_description: B Series, 3 pole male XLR receptacle, grounding: ground contact connected to shell ground, but not to front panel and Pin 1, steel retention lug, horizontal PCB mount; ki_fp_filters: Jack*XLR*; Footprint: Connector_Audio:Jack_XLR_Neutrik_NC3MBH-0_Horizontal; Datasheet: https://www.neutrik.com/en/product/nc3mbh-0
pins: 1, 2, 3, G

## NC3MBH-1
designator *  value NC3MBH-1  Reference: J
ki_keywords: xlr connector neutrik; ki_description: B Series, 3 pole male XLR receptacle, grounding: mating connector shell to pin1 and front panel, steel retention lug, horizontal PCB mount; ki_fp_filters: Jack*XLR*; Footprint: Connector_Audio:Jack_XLR_Neutrik_NC3MBH-1_Horizontal; Datasheet: https://www.neutrik.com/en/product/nc3mbh-1
pins: 1, 2, 3

## NC3MBH-B
designator *  value NC3MBH-B  Reference: J
ki_keywords: xlr connector neutrik; ki_description: B Series, 3 pole male XLR receptacle, grounding: separate ground contact to mating connector shell and front panel, steel retention lug, horizontal PCB mount, black chrome shell; ki_fp_filters: Jack*XLR*; Footprint: Connector_Audio:Jack_XLR_Neutrik_NC3MBH-B_Horizontal; Datasheet: https://www.neutrik.com/en/product/nc3mbh-b
pins: 1, 2, 3, G

## NC3MBH-E
designator *  value NC3MBH-E  Reference: J
ki_keywords: xlr connector neutrik; ki_description: B Series, 3 pole male XLR receptacle, grounding: separate ground contact to mating connector shell and front panel, steel retention lug, horizontal PCB mount, additional ground contacts; ki_fp_filters: Jack*XLR*; Footprint: Connector_Audio:Jack_XLR_Neutrik_NC3MBH-E_Horizontal; Datasheet: https://www.neutrik.com/en/product/nc3mbh-e
pins: 1, 2, 3, G

## NC3MBHL
designator *  value NC3MBHL  Reference: J
ki_keywords: xlr connector neutrik; ki_description: B Series, 3 pole male XLR receptacle, grounding: separate ground contact to mating connector shell and front panel, steel retention lug, lateral left PCB mount; ki_fp_filters: Jack*XLR*; Footprint: Connector_Audio:Jack_XLR_Neutrik_NC3MBHL_Horizontal; Datasheet: https://www.neutrik.com/en/product/nc3mbhl
pins: 1, 2, 3, G

## NC3MBHL-B
designator *  value NC3MBHL-B  Reference: J
ki_keywords: xlr connector neutrik; ki_description: B Series, 3 pole male XLR receptacle, grounding: separate ground contact to mating connector shell and front panel, steel retention lug, lateral left PCB mount, black chrome shell; ki_fp_filters: Jack*XLR*; Footprint: Connector_Audio:Jack_XLR_Neutrik_NC3MBHL-B_Horizontal; Datasheet: https://www.neutrik.com/en/product/nc3mbhl-b
pins: 1, 2, 3, G

## NC3MBHR
designator *  value NC3MBHR  Reference: J
ki_keywords: xlr connector neutrik; ki_description: B Series, 3 pole male XLR receptacle, grounding: separate ground contact to mating connector shell and front panel, steel retention lug, lateral right PCB mount; ki_fp_filters: Jack*XLR*; Footprint: Connector_Audio:Jack_XLR_Neutrik_NC3MBHR_Horizontal; Datasheet: https://www.neutrik.com/en/product/nc3mbhr
pins: 1, 2, 3, G

## NC3MBHR-B
designator *  value NC3MBHR-B  Reference: J
ki_keywords: xlr connector neutrik; ki_description: B Series, 3 pole male XLR receptacle, grounding: separate ground contact to mating connector shell and front panel, steel retention lug, lateral right PCB mount, black chrome shell; ki_fp_filters: Jack*XLR*; Footprint: Connector_Audio:Jack_XLR_Neutrik_NC3MBHR-B_Horizontal; Datasheet: https://www.neutrik.com/en/product/nc3mbhr-b
pins: 1, 2, 3, G

## NC3MBV
designator *  value NC3MBV  Reference: J
ki_keywords: xlr connector neutrik; ki_description: B Series, 3 pole male XLR receptacle, grounding: separate ground contact to mating connector shell and front panel, steel retention lug, vertical PCB mount; ki_fp_filters: Jack*XLR*; Footprint: Connector_Audio:Jack_XLR_Neutrik_NC3MBV_Vertical; Datasheet: https://www.neutrik.com/en/product/nc3mbv
pins: 1, 2, 3, G

## NC3MBV-0
designator *  value NC3MBV-0  Reference: J
ki_keywords: xlr connector neutrik; ki_description: B Series, 3 pole male XLR receptacle, grounding: ground contact connected to shell ground, but not to front panel and Pin 1, steel retention lug, vertical PCB mount; ki_fp_filters: Jack*XLR*; Footprint: Connector_Audio:Jack_XLR_Neutrik_NC3MBV-0_Vertical; Datasheet: https://www.neutrik.com/en/product/nc3mbv-0
pins: 1, 2, 3, G

## NC3MBV-1
designator *  value NC3MBV-1  Reference: J
ki_keywords: xlr connector neutrik; ki_description: B Series, 3 pole male XLR receptacle, grounding: mating connector shell to pin1 and front panel, steel retention lug, vertical PCB mount; ki_fp_filters: Jack*XLR*; Footprint: Connector_Audio:Jack_XLR_Neutrik_NC3MBV-1_Vertical; Datasheet: https://www.neutrik.com/en/product/nc3mbv-1
pins: 1, 2, 3

## NC3MBV-B
designator *  value NC3MBV-B  Reference: J
ki_keywords: xlr connector neutrik; ki_description: B Series, 3 pole male XLR receptacle, grounding: separate ground contact to mating connector shell and front panel, steel retention lug, vertical PCB mount, black chrome shell; ki_fp_filters: Jack*XLR*; Footprint: Connector_Audio:Jack_XLR_Neutrik_NC3MBV-B_Vertical; Datasheet: https://www.neutrik.com/en/product/nc3mbv-b
pins: 1, 2, 3, G

## NC3MBV-E
designator *  value NC3MBV-E  Reference: J
ki_keywords: xlr connector neutrik; ki_description: B Series, 3 pole male XLR receptacle, grounding: separate ground contact to mating connector shell and front panel, steel retention lug, vertical PCB mount, additional ground contacts; ki_fp_filters: Jack*XLR*; Footprint: Connector_Audio:Jack_XLR_Neutrik_NC3MBV-E_Vertical; Datasheet: https://www.neutrik.com/en/product/nc3mbv-e
pins: 1, 2, 3, G

## NC3MBV-SW
designator *  value NC3MBV-SW  Reference: J
ki_keywords: xlr connector spdt switch neutrik; ki_description: B Series, 3 pole male XLR receptacle, switching contacts, grounding: separate ground contact to mating connector shell and front panel, vertical PCB mount; ki_fp_filters: Jack*XLR*; Footprint: Connector_Audio:Jack_XLR_Neutrik_NC3MBV-SW_Vertical; Datasheet: https://www.neutrik.com/en/product/nc3mbv-sw
part A pins: 1, 2, 3, G
part B pins: N, NC, NO

## NC4FAH
designator *  value NC4FAH  Reference: J
ki_keywords: xlr connector neutrik; ki_description: A Series, 4 pole female XLR receptacle, grounding: separate ground contact to mating connector shell and front panel, horizontal PCB mount; ki_fp_filters: Jack*XLR*; Footprint: Connector_Audio:Jack_XLR_Neutrik_NC4FAH_Horizontal; Datasheet: https://www.neutrik.com/en/product/nc4fah
pins: 1, 2, 3, 4, G

## NC4FAH-0
designator *  value NC4FAH-0  Reference: J
ki_keywords: xlr connector neutrik; ki_description: A Series, 4 pole female XLR receptacle, grounding: separate ground contact to mating connector shell and front panel, horizontal PCB mount, retention spring instead of latch; ki_fp_filters: Jack*XLR*; Footprint: Connector_Audio:Jack_XLR_Neutrik_NC4FAH-0_Horizontal; Datasheet: https://www.neutrik.com/en/product/nc4fah-0
pins: 1, 2, 3, 4, G

## NC4FAV
designator *  value NC4FAV  Reference: J
ki_keywords: xlr connector neutrik; ki_description: A Series, 4 pole female XLR receptacle, grounding: separate ground contact to mating connector shell and front panel, vertical PCB mount; ki_fp_filters: Jack*XLR*; Footprint: Connector_Audio:Jack_XLR_Neutrik_NC4FAV_Vertical; Datasheet: https://www.neutrik.com/en/product/nc4fav
pins: 1, 2, 3, 4, G

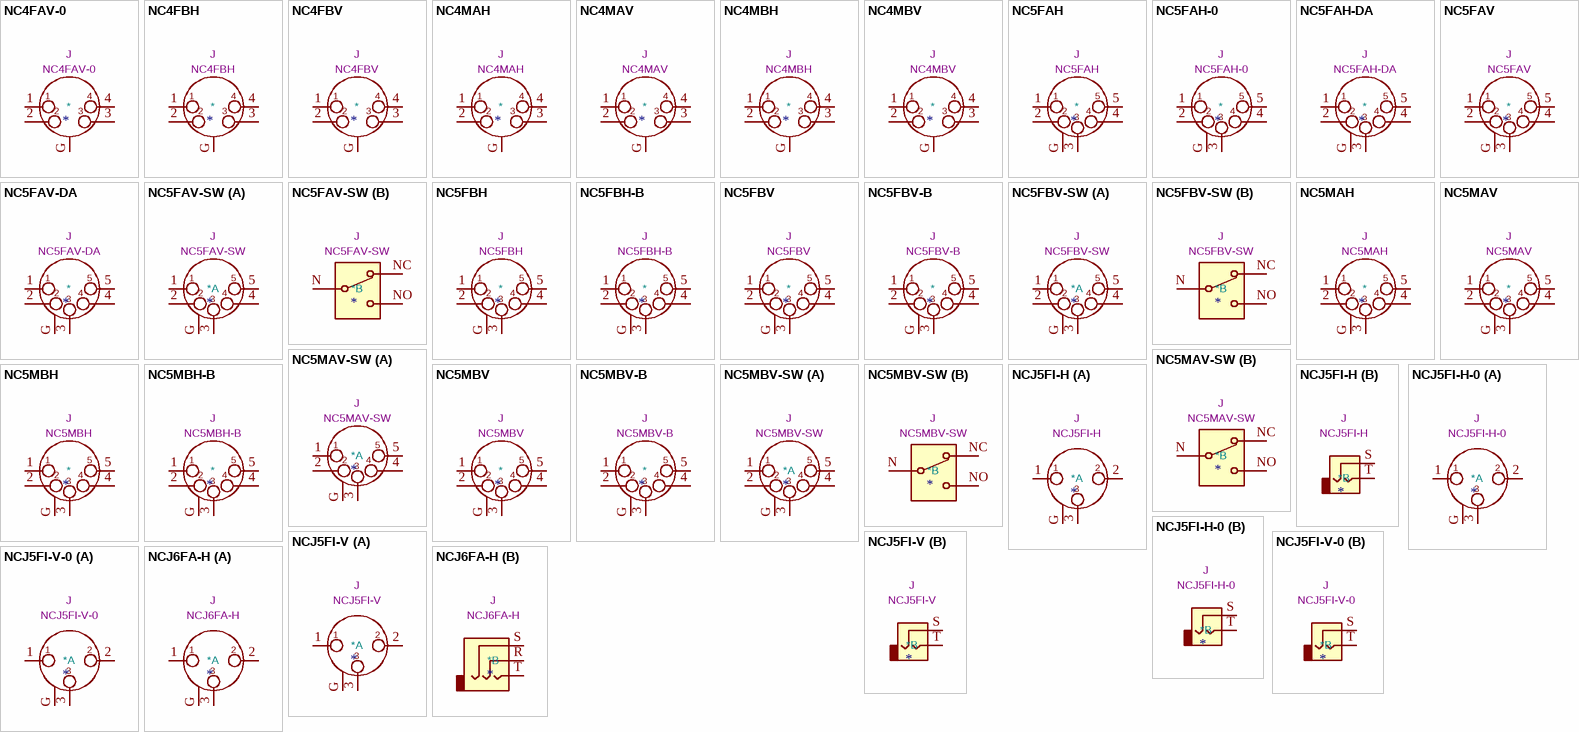
[diagram p3: symbols NC4FAV-0 to NCJ6FA-H]

## NC4FAV-0
designator *  value NC4FAV-0  Reference: J
ki_keywords: xlr connector neutrik; ki_description: A Series, 4 pole female XLR receptacle, grounding: separate ground contact to mating connector shell and front panel, vertical PCB mount, retention spring instead of latch; ki_fp_filters: Jack*XLR*; Footprint: Connector_Audio:Jack_XLR_Neutrik_NC4FAV-0_Vertical; Datasheet: https://www.neutrik.com/en/product/nc4fav-0
pins: 1, 2, 3, 4, G

## NC4FBH
designator *  value NC4FBH  Reference: J
ki_keywords: xlr connector neutrik; ki_description: B Series, 4 pole female XLR receptacle, grounding: separate ground contact to mating connector shell and front panel, horizontal PCB mount; ki_fp_filters: Jack*XLR*; Footprint: Connector_Audio:Jack_XLR_Neutrik_NC4FBH_Horizontal; Datasheet: https://www.neutrik.com/en/product/nc4fbh
pins: 1, 2, 3, 4, G

## NC4FBV
designator *  value NC4FBV  Reference: J
ki_keywords: xlr connector neutrik; ki_description: B Series, 4 pole female XLR receptacle, grounding: separate ground contact to mating connector shell and front panel, vertical PCB mount; ki_fp_filters: Jack*XLR*; Footprint: Connector_Audio:Jack_XLR_Neutrik_NC4FBV_Vertical; Datasheet: https://www.neutrik.com/en/product/nc4fbv
pins: 1, 2, 3, 4, G

## NC4MAH
designator *  value NC4MAH  Reference: J
ki_keywords: xlr connector neutrik; ki_description: A Series, 4 pole male XLR receptacle, grounding: separate ground contact to mating connector shell and front panel, horizontal PCB mount; ki_fp_filters: Jack*XLR*; Footprint: Connector_Audio:Jack_XLR_Neutrik_NC4MAH_Horizontal; Datasheet: https://www.neutrik.com/en/product/nc4mah
pins: 1, 2, 3, 4, G

## NC4MAV
designator *  value NC4MAV  Reference: J
ki_keywords: xlr connector neutrik; ki_description: A Series, 4 pole male XLR receptacle, grounding: separate ground contact to mating connector shell and front panel, vertical PCB mount; ki_fp_filters: Jack*XLR*; Footprint: Connector_Audio:Jack_XLR_Neutrik_NC4MAV_Vertical; Datasheet: https://www.neutrik.com/en/product/nc4mav
pins: 1, 2, 3, 4, G

## NC4MBH
designator *  value NC4MBH  Reference: J
ki_keywords: xlr connector neutrik; ki_description: B Series, 4 pole male XLR receptacle, grounding: separate ground contact to mating connector shell and front panel, horizontal PCB mount; ki_fp_filters: Jack*XLR*; Footprint: Connector_Audio:Jack_XLR_Neutrik_NC4MBH_Horizontal; Datasheet: https://www.neutrik.com/en/product/nc4mbh
pins: 1, 2, 3, 4, G

## NC4MBV
designator *  value NC4MBV  Reference: J
ki_keywords: xlr connector neutrik; ki_description: B Series, 4 pole male XLR receptacle, grounding: separate ground contact to mating connector shell and front panel, vertical PCB mount; ki_fp_filters: Jack*XLR*; Footprint: Connector_Audio:Jack_XLR_Neutrik_NC4MBV_Vertical; Datasheet: https://www.neutrik.com/en/product/nc4mbv
pins: 1, 2, 3, 4, G

## NC5FAH
designator *  value NC5FAH  Reference: J
ki_keywords: xlr connector neutrik; ki_description: A Series, 5 pole female XLR receptacle, grounding: separate ground contact to mating connector shell and front panel, horizontal PCB mount; ki_fp_filters: Jack*XLR*; Footprint: Connector_Audio:Jack_XLR_Neutrik_NC5FAH_Horizontal; Datasheet: https://www.neutrik.com/en/product/nc5fah
pins: 1 P1, 2 P2, 3 P3, 4 P3, 5 P5, G

## NC5FAH-0
designator *  value NC5FAH-0  Reference: J
ki_keywords: xlr connector neutrik; ki_description: A Series, 5 pole female XLR receptacle, grounding: separate ground contact to mating connector shell and front panel, horizontal PCB mount, retention spring instead of latch; ki_fp_filters: Jack*XLR*; Footprint: Connector_Audio:Jack_XLR_Neutrik_NC5FAH-0_Horizontal; Datasheet: https://www.neutrik.com/en/product/nc5fah-0
pins: 1 P1, 2 P2, 3 P3, 4 P3, 5 P5, G

## NC5FAH-DA
designator *  value NC5FAH-DA  Reference: J
ki_keywords: xlr connector neutrik; ki_description: A Series, 5 pole female XLR receptacle, grounding: mating connector shell to pin1 and front panel, horizontal PCB mount, asymmetric push; ki_fp_filters: Jack*XLR*; Footprint: Connector_Audio:Jack_XLR_Neutrik_NC5FAH-DA_Horizontal; Datasheet: https://www.neutrik.com/en/product/nc5fah-da
pins: 1 P1, 2 P2, 3 P3, 4 P3, 5 P5, G

## NC5FAV
designator *  value NC5FAV  Reference: J
ki_keywords: xlr connector neutrik; ki_description: A Series, 5 pole female XLR receptacle, grounding: separate ground contact to mating connector shell and front panel, vertical PCB mount; ki_fp_filters: Jack*XLR*; Footprint: Connector_Audio:Jack_XLR_Neutrik_NC5FAV_Vertical; Datasheet: https://www.neutrik.com/en/product/nc5fav
pins: 1 P1, 2 P2, 3 P3, 4 P3, 5 P5, G

## NC5FAV-DA
designator *  value NC5FAV-DA  Reference: J
ki_keywords: xlr connector neutrik; ki_description: A Series, 5 pole female XLR receptacle, grounding: mating connector shell to pin1 and front panel, horizontal PCB mount, asymmetric push; ki_fp_filters: Jack*XLR*; Footprint: Connector_Audio:Jack_XLR_Neutrik_NC5FAV-DA_Vertical; Datasheet: https://www.neutrik.com/en/product/nc5fav-da
pins: 1 P1, 2 P2, 3 P3, 4 P3, 5 P5, G

## NC5FAV-SW
designator *  value NC5FAV-SW  Reference: J
ki_keywords: xlr connector spdt switch neutrik; ki_description: A Series, 5 pole female XLR receptacle, switching contacts, grounding: separate ground contact to mating connector shell and front panel, vertical PCB mount, color coding possible; ki_fp_filters: Jack*XLR*; Footprint: Connector_Audio:Jack_XLR_Neutrik_NC5FAV-SW_Vertical; Datasheet: https://www.neutrik.com/en/product/nc5fav-sw
part A pins: 1 P1, 2 P2, 3 P3, 4 P3, 5 P5, G
part B pins: N, NC, NO